# Altium footprint library 海关全向控制器图传转接板V4.PcbLib: 9 footprints
Each footprint in its own frame and in the unit in brackets; x right, y up, seen from the top. Pads: shape width x height; smd on the part's side, far side on the other; paste and mask are expansions set on the pad; w line width, h text height; cw(c..) or ccw(c..) is an arc to the next point about the centre after c.
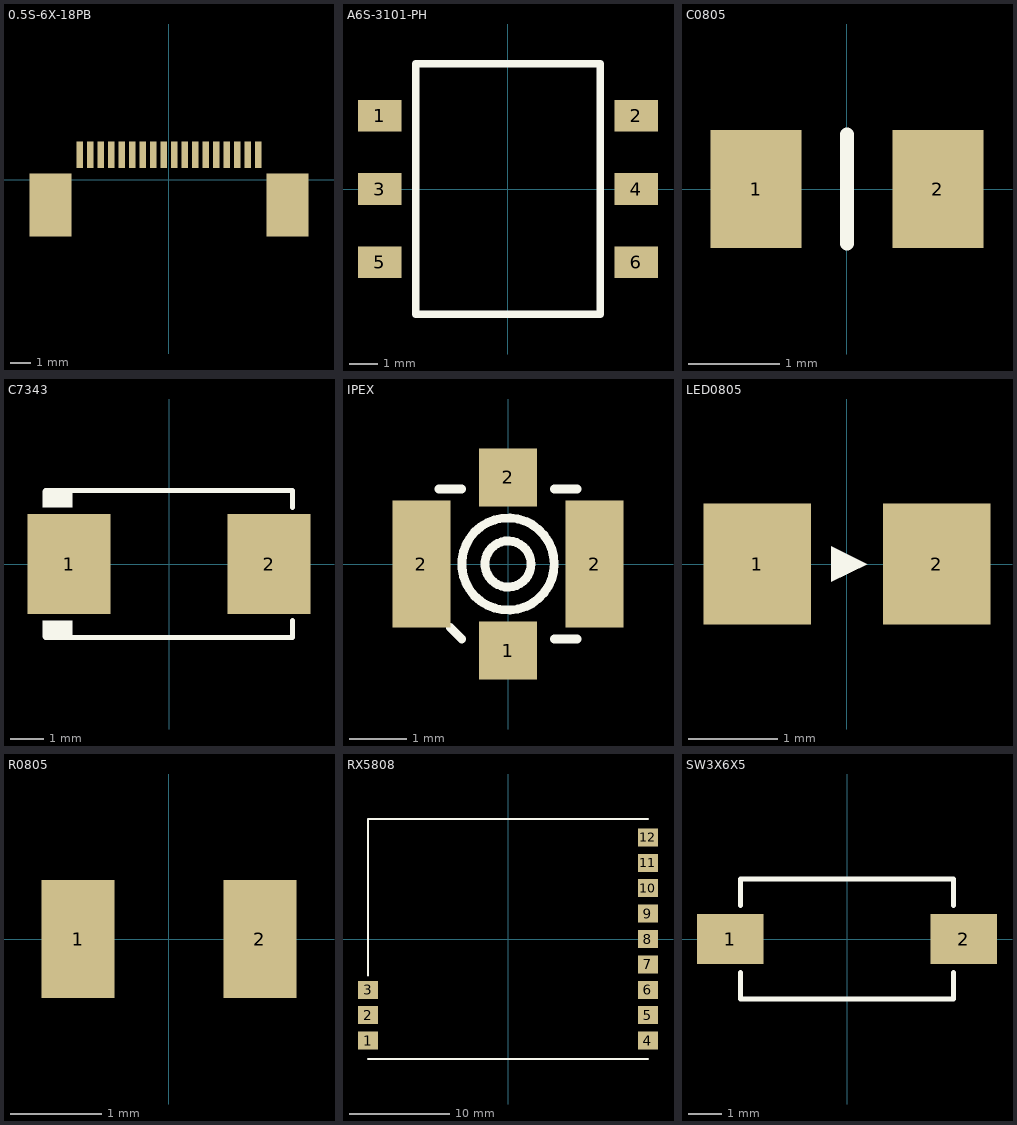
[diagram p0: the footprints below, top view; thin cyan lines are the x and y axes]

## 0.5S-6X-18PB [mm]
pads (20):
  rect 0.3x1.25 smd: 1(-4.25,1.2) 2(-3.75,1.2) 3(-3.25,1.2) 4(-2.75,1.2) 5(-2.25,1.2) 6(-1.75,1.2) 7(-1.25,1.2) 8(-0.75,1.2) 9(-0.25,1.2) 10(0.25,1.2) 11(0.75,1.2) 12(1.25,1.2) 13(1.75,1.2) 14(2.25,1.2) 15(2.75,1.2) 16(3.25,1.2) 17(3.75,1.2) 18(4.25,1.2)
  rect 2x3 smd: ""(-5.65,-1.2) ""(5.65,-1.2)
3D body: height 1.27, standoff -0.03, extent -5.75,-2.75 5.75,1

## A6S-3101-PH [mm] "3位表贴拨码开关2.54mm间距"
height 3
pads (6):
  rect 1.5x1.1 smd: 1(-4.45,2.54) 2(4.45,2.54) 3(-4.45,0) 4(4.45,0) 5(-4.45,-2.54) 6(4.45,-2.54)
Top Overlay:
  lines w0.254: -3.2,-4.34 3.2,-4.34 3.2,4.34 -3.2,4.34 -3.2,-4.34
3D body: height 3.4, standoff 0.05, extent -4.9,-4.28 4.9,4.28

## C0805 [mm]
height 1.25
pads (2):
  rect 1x1.3 smd: 1(-1,0) 2(1,0)
Top Overlay:
  lines w0.152: 0,-0.6 0,0.6
3D body: height 0.8, standoff 0, extent -1,-0.625 1,0.625

## C7343 [mm] "100uF/25V"
height 4.2
pads (2):
  rect 2.5x3 smd: 1(-3,0) 2(3,0)
Top Overlay:
  rectangle: -3.8,1.7 -2.9,2.2
  rectangle: -3.8,-2.2 -2.9,-1.7
  lines w0.152: -3.7,-2.2 3.7,-2.2 3.7,-1.7 ; -3.7,2.2 3.7,2.2 3.7,1.7
3D body: height 2.9, standoff 0, extent -3.874,-2.15 3.875,2.15

## IPEX [mm]
pads (4):
  rect 1x1 smd: 1(0,-1.5) 2(0,1.5)
  rect 1x2.2 smd: 2(-1.5,0) 2(1.5,0)
Top Overlay:
  circle w0.152: c0,0 r0.8
  circle w0.152: c0,0 r0.4
  lines w0.152: -1.2,1.3 -0.8,1.3 ; -1,-1.1 -0.8,-1.3 ; 0.8,-1.3 1.2,-1.3 ; 0.8,1.3 1.2,1.3
3D body: height 0.9, standoff -0.45, extent -1.45,-1.45 1.45,1.45

## LED0805 [mm]
pads (2):
  rect 1.2x1.35 smd: 1(-1,0) 2(1,0)
Top Overlay:
  region: -0.176,0.2 -0.176,-0.2 0.224,0
3D body: height 0.8, standoff 0, extent -1.05,-0.675 1.05,0.675

## R0805 [mm]
height 0.55
pads (2):
  rect 0.8x1.3 smd: 1(-1,0) 2(1,0)
3D body: height 0.47, standoff 0, extent -1,-0.626 1,0.626

## RX5808 [mm]
height 3
pads (12):
  rect 2x1.8 smd: 1(-14,-10.16) 2(-14,-7.62) 3(-14,-5.08) 4(14,-10.16) 5(14,-7.62) 6(14,-5.08) 7(14,-2.54) 8(14,0) 9(14,2.54) 10(14,5.08) 11(14,7.62) 12(14,10.16)
Top Overlay:
  lines w0.152: -14,-12 14,-12 ; -14,-3.66 -14,12 14,12
3D body: height 3, standoff 0, extent -13.91,-11.79 14.2,11.79

## SW3X6X5 [mm] "2脚表贴轻触开关"
height 5
pads (2):
  rect 2x1.5 smd: 1(-3.5,0) 2(3.5,0)
Top Overlay:
  lines w0.152: -3.2,-1 -3.2,-1.8 3.2,-1.8 3.2,-1 ; -3.2,1 -3.2,1.8 3.2,1.8 3.2,1
3D body: height 4.6, standoff 0, extent -4.03,-1.75 4.03,1.75